# Altium schematic symbol library thuvien_altium.SchLib: 53 symbols
Pins are listed as number, name and electrical type; pins without a type are passive.

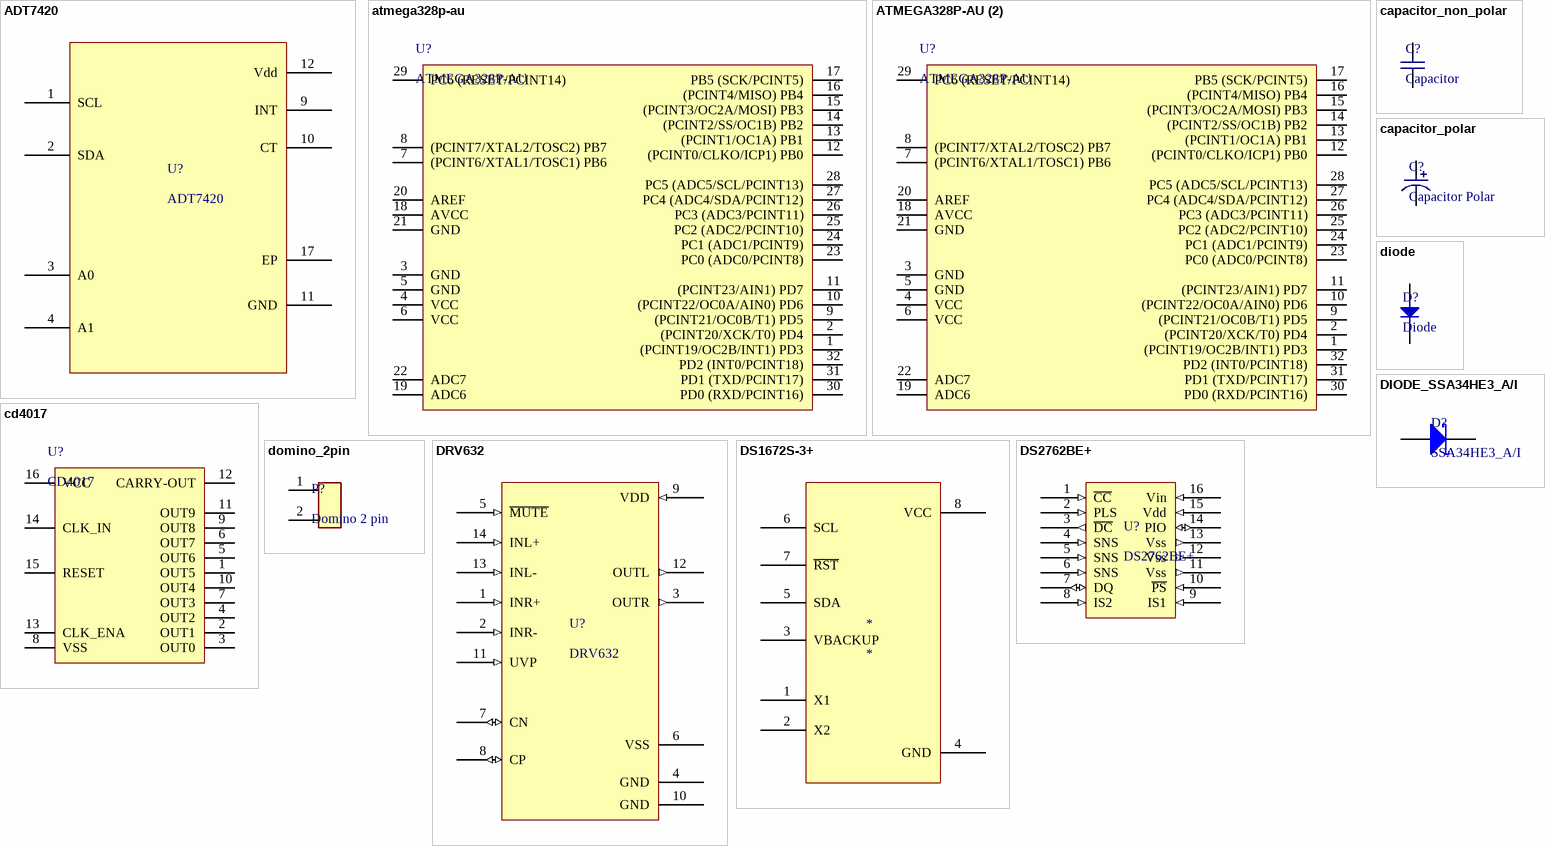
[diagram p0: symbols ADT7420 to DS2762BE+]

## ADT7420
designator U?
I2C Temperature sensor; Manufacturer: Analog Devices; Voltage: 2,7 - 5,5V; ComponentLink1Description: New link; ComponentLink1URL: https://www.analog.com/media/en/technical-documentation/data-sheets/adt7420.pdf; Temperature: -40 - 150°C
footprint ADT7420 (I2C Temperature sensor)
pins: 1 SCL, 2 SDA, 3 A0, 4 A1, 9 INT, 10 CT, 11 GND, 12 Vdd, 17 EP

## atmega328p-au
designator U?, comment ATMEGA328P-AU
AVR AVR® ATmega Microcontroller IC 8-Bit 20MHz 32KB (16K x 16) FLASH 32-TQFP (7x7)
footprint TQFP-32 (32-TQFP (7x7), Pitch 0.8mm)
pins: 1 (PCINT19/OC2B/INT1) PD3 (power), 2 (PCINT20/XCK/T0) PD4 (power), 3 GND (power), 4 VCC (power), 5 GND (power), 6 VCC (power), 7 (PCINT6/XTAL1/TOSC1) PB6 (power), 8 (PCINT7/XTAL2/TOSC2) PB7 (power), 9 (PCINT21/OC0B/T1) PD5 (power), 10 (PCINT22/OC0A/AIN0) PD6 (power), 11 (PCINT23/AIN1) PD7 (power), 12 (PCINT0/CLKO/ICP1) PB0 (power), 13 (PCINT1/OC1A) PB1 (power), 14 (PCINT2/SS/OC1B) PB2 (power), 15 (PCINT3/OC2A/MOSI) PB3 (power), 16 (PCINT4/MISO) PB4 (power), 17 PB5 (SCK/PCINT5) (power), 18 AVCC (power), 19 ADC6 (power), 20 AREF (power), 21 GND (power), 22 ADC7 (power), 23 PC0 (ADC0/PCINT8) (power), 24 PC1 (ADC1/PCINT9) (power), 25 PC2 (ADC2/PCINT10) (power), 26 PC3 (ADC3/PCINT11) (power), 27 PC4 (ADC4/SDA/PCINT12) (power), 28 PC5 (ADC5/SCL/PCINT13) (power), 29 PC6 (RESET/PCINT14) (power), 30 PD0 (RXD/PCINT16) (power), 31 PD1 (TXD/PCINT17) (power), 32 PD2 (INT0/PCINT18) (power)

## ATMEGA328P-AU (2)
designator U?, comment ATMEGA328P-AU
8-bit Microcontrollers - MCU 32KB In-system Flash 20MHz 1.8V-5.5V; Manufacturer: Microchip Technology / Atmel; Data RAM Size: 2 kB; Data RAM Type: SRAM; Data ROM Size: 1 kB; Data ROM Type: EEPROM; Interface Type: I2C, SPI, USART; Number of I/Os: 23 I/O; ADC Resolution: 10 bit; Core: AVR; Data Bus Width: 8 bit; Number of ADC Channels: 8 Channel; Number of Timers/Counters: 3 Timer; Operating Supply Voltage: 1.8 V to 5.5 V; Processor Series: megaAVR; Supply Voltage - Max: 5.5 V; Supply Voltage - Min: 1.8 V; Supplier 1: Mouser; Manufacturer Part Number: ATMEGA328P-AU; RoHS: RoHS Compliant; Category: 8-bit Microcontrollers - MCU; Stock 1: 36614; Pricing 1: 1=2.01, 25=1.84, 100=1.67 (USD); Height: 1 mm; Length: 7 mm; Package / Case: TQFP-32; Packaging: Tray; Product: MCU; Program Memory Type: Flash; Series: ATmega328P; Width: 7 mm; Brand: Microchip Technology / Atmel; Mounting Style: SMD/SMT; Program Memory Size: 32 kB; Maximum Clock Frequency: 20 MHz; Maximum Operating Temperature: + 85 C; Minimum Operating Temperature: - 40 C; Moisture Sensitive: Yes; Product Type: 8-bit Microcontrollers - MCU; Standard Pack Qty: 250; Subcategory: Microcontrollers - MCU; Tradename: AVR; RoHS - Mouser: Y; Minimum Order Quantity: 1; Reeling: False; ComponentLink1URL: https://www.mouser.com/datasheet/2/268/Atmel-8271-8-bit-AVR-Microcontroller-ATmega48A-48P-1315288.pdf; ComponentLink1Description: https://www.mouser.com/datasheet/2/268/Atmel-8271-8-bit-AVR-Microcontroller-ATmega48A-48P-1315288.pdf; Supplier Part Number 1: 556-ATMEGA328P-AU
footprint TQFP-32 (32-TQFP (7x7), Pitch 0.8mm)
pins: 1 (PCINT19/OC2B/INT1) PD3 (power), 2 (PCINT20/XCK/T0) PD4 (power), 3 GND (power), 4 VCC (power), 5 GND (power), 6 VCC (power), 7 (PCINT6/XTAL1/TOSC1) PB6 (power), 8 (PCINT7/XTAL2/TOSC2) PB7 (power), 9 (PCINT21/OC0B/T1) PD5 (power), 10 (PCINT22/OC0A/AIN0) PD6 (power), 11 (PCINT23/AIN1) PD7 (power), 12 (PCINT0/CLKO/ICP1) PB0 (power), 13 (PCINT1/OC1A) PB1 (power), 14 (PCINT2/SS/OC1B) PB2 (power), 15 (PCINT3/OC2A/MOSI) PB3 (power), 16 (PCINT4/MISO) PB4 (power), 17 PB5 (SCK/PCINT5) (power), 18 AVCC (power), 19 ADC6 (power), 20 AREF (power), 21 GND (power), 22 ADC7 (power), 23 PC0 (ADC0/PCINT8) (power), 24 PC1 (ADC1/PCINT9) (power), 25 PC2 (ADC2/PCINT10) (power), 26 PC3 (ADC3/PCINT11) (power), 27 PC4 (ADC4/SDA/PCINT12) (power), 28 PC5 (ADC5/SCL/PCINT13) (power), 29 PC6 (RESET/PCINT14) (power), 30 PD0 (RXD/PCINT16) (power), 31 PD1 (TXD/PCINT17) (power), 32 PD2 (INT0/PCINT18) (power)

## capacitor_non_polar
designator C?, comment Capacitor
capacitor non polar
footprint CAPC0805 (Chip Capacitor, Body 2.0x1.3mm, IPC High Density)
footprint CAP0603
pins: 1 (power), 2 (power)

## capacitor_polar
designator C?, comment Capacitor Polar
footprint capacitor_polar_6.3x11mm
footprint CAP_ALUMINUM_SMD_SIZE_G (SMD Aluminum Capacitor; Size G, Dia 10mm, Body 10.3 x 10.3 mm (LxW typ))
footprint Model Name (Footprint not found)
pins: 1 (power), 2 (power)

## cd4017
designator U?, comment CD4017
footprint DIP-16
pins: 1 OUT5 (power), 2 OUT1 (power), 3 OUT0 (power), 4 OUT2 (power), 5 OUT6 (power), 6 OUT7 (power), 7 OUT3 (power), 8 VSS (power), 9 OUT8 (power), 10 OUT4 (power), 11 OUT9 (power), 12 CARRY-OUT (power), 13 CLK_ENA (power), 14 CLK_IN (power), 15 RESET (power), 16 VCC (power)

## diode
designator D?, comment Diode
footprint DIODE_SOD80
footprint DO-214AC
pins: 1 A (power), 2 K (power)

## DIODE_SSA34HE3_A/I
designator D?, comment SSA34HE3_A/I
DIODE SCHOTTKY 40V 3A DO214AC; Manufacturer 1: Vishay Semiconductor Diodes Division; Category 1: Discrete Semiconductor Products; Voltage - Forward (Vf) (Max) @ If: 490mV @ 3A; Speed: Fast Recovery =< 500ns, > 200mA (Io); Current - Reverse Leakage @ Vr: 200µA @ 40V; Supplier 1: Digi-Key; Supplier Part Number 1: SSA34HE3_A/I-ND; Manufacturer Part Number 1: SSA34HE3_A/I; RoHS 1: RoHS Compliant; Description 1: DIODE SCHOTTKY 40V 3A DO214AC; Stock 1: 0; Pricing 1: 7500=0.13508 (USD); Packaging: Tape & Reel (TR); Part Status: Active; Diode Type: Schottky; Voltage - DC Reverse (Vr) (Max): 40V; Current - Average Rectified (Io): 3A; Capacitance @ Vr, F: -; Mounting Type: Surface Mount; Package / Case: DO-214AC, SMA; Supplier Device Package: DO-214AC (SMA); Operating Temperature - Junction: -65°C ~ 150°C; ComponentLink1URL: http://www.vishay.com/docs/88883/ssa33l.pdf; ComponentLink1Description: http://www.vishay.com/docs/88883/ssa33l.pdf
footprint DO-214AC
pins: 1 A, 2 K

## domino_2pin
designator P?, comment Domino 2 pin
footprint Domino_2pin_5.08mm
pins: 1 (power), 2 (power)

## DRV632
designator U?
2-VRMS Audio Line Driver With Adjustable Gain; ComponentLink1Description: New link; ComponentLink1URL: https://www.ti.com/lit/ds/symlink/drv632.pdf?ts=1742996996213&ref_url=https%253A%252F%252Fwww.ti.com%252Faudio-ic%252Famplifiers%252Fline-drivers%252Fproducts.html
footprint DRV632 (2-VRMS Audio Line Driver With Adjustable Gain)
pins: 1 INR+ (in), 2 INR- (in), 3 OUTR (out), 4 GND, 5 ~{MUTE} (in), 6 VSS, 7 CN (io), 8 CP (io), 9 VDD (in), 10 GND, 11 UVP (in), 12 OUTL (out), 13 INL- (in), 14 INL+ (in)

## DS1672S-3+
designator *
pins: 1 X1, 2 X2, 3 VBACKUP, 4 GND, 5 SDA, 6 SCL, 7 ~{RST}, 8 VCC

## DS2762BE+
designator U?
High-Precision Li+ Battery Monitor With Alerts
footprint DS2762BE+
pins: 1 ~{CC} (in), 2 PLS (in), 3 ~{DC} (out), 4 SNS (in), 5 SNS (in), 6 SNS (in), 7 DQ (io), 8 IS2 (in), 9 IS1 (in), 10 ~{PS} (in), 11 Vss (out), 12 Vss (out), 13 Vss (out), 14 PIO (io), 15 Vdd (in), 16 Vin (in)

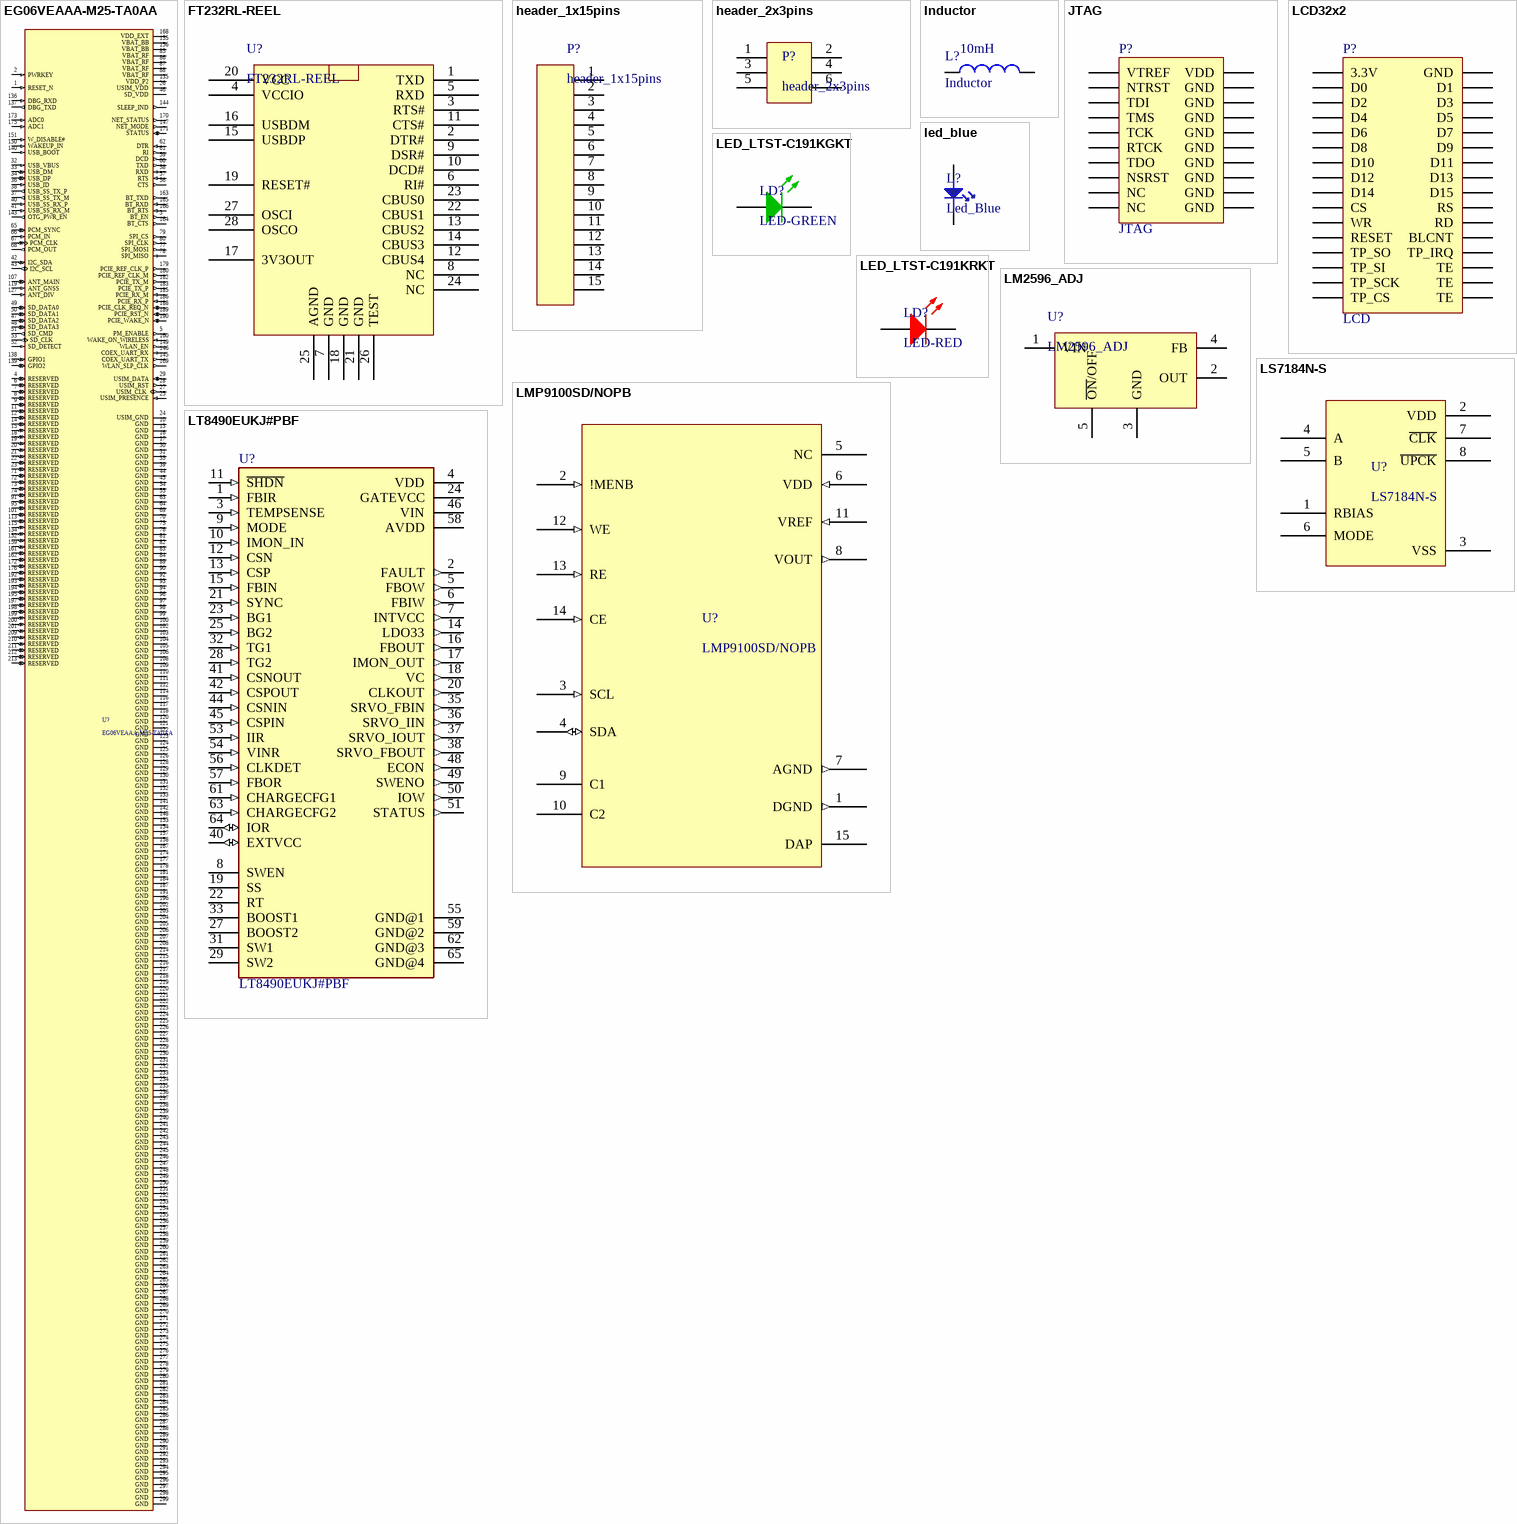
[diagram p1: symbols EG06VEAAA-M25-TA0AA to LT8490EUKJ#PBF]

## EG06VEAAA-M25-TA0AA
designator U?
EG060VEAAA-M25-TA0AA | Quectel; ComponentLink1Description: New link; ComponentLink1URL: https://www.snapeda.com/parts/EG060VEAAA-M25-TA0AA/Quectel/datasheet/
footprint EG060VEAAA-M25-TA0AA
pins: 1 RESET_N (in), 2 PWRKEY (in), 3 BT_EN (out), 4 RESERVED (io), 5 PM_ENABLE (out), 6 RESERVED (io), 7 RESERVED (io), 8 RESERVED (io), 9 RESERVED (io), 10 GND (power), 11 RESERVED (io), 12 RESERVED (io), 13 GND (power), 14 RESERVED (io), 15 RESERVED (io), 16 GND (power), 17 GND (power), 18 RESERVED (io), 19 RESERVED (io), 20 RESERVED (io), 21 RESERVED (io), 22 RESERVED (io), 23 RESERVED (io), 24 USIM_GND (power), 25 USIM_PRESENCE (in), 26 USIM_VDD (power), 27 USIM_CLK (out), 28 USIM_RST (out), 29 USIM_DATA (io), 30 GND (power), 31 GND (power), 32 USB_VBUS (in), 33 USB_DM (io), 34 USB_DP (io), 35 GND (power), 36 USB_ID (in), 37 USB_SS_TX_M (out), 38 USB_SS_TX_P (out), 39 GND (power), 40 USB_SS_RX_P (in), 41 USB_SS_RX_M (in), 42 I2C_SDA (io), 43 I2C_SCL (out), 44 GND (power), 45 GND (power), 46 SD_VDD (power), 47 SD_DATA2 (io), 48 SD_DATA3 (io), 49 SD_DATA0 (io), 50 SD_DATA1 (io), 51 SD_CMD (out), 52 SD_DETECT (in), 53 SD_CLK (out), 54 GND (power), 55 GND (power), 56 CTS (out), 57 RTS (in), 58 RXD (in), 59 DCD (out), 60 TXD (out), 61 RI (out), 62 DTR (in), 63 GND (power), 64 GND (power), 65 PCM_SYNC (io), 66 PCM_IN (in), 67 PCM_CLK (io), 68 PCM_OUT (out), 69 GND (power), 70 GND (power), 71 RESERVED (io), 72 RESERVED (io), 73 RESERVED (io), 74 RESERVED (io), 75 GND (power), 76 GND (power), 77 SPI_MOSI (out), 78 SPI_MISO (in), 79 SPI_CS (out), 80 SPI_CLK (out), 81 GND (power), 82 GND (power), 83 GND (power), 84 GND (power), 85 VBAT_RF (power), 86 VBAT_RF (power), 87 VBAT_RF (power), 88 VBAT_RF (power), 89 GND (power), 90 GND (power), 91 RESERVED (io), 92 GND (power), 93 GND (power), 94 GND (power), 95 RESERVED (io), 96 GND (power), 97 GND (power), 98 GND (power), 99 GND (power), 100 GND (power), 101 RESERVED (io), 102 GND (power), 103 GND (power), 104 GND (power), 105 GND (power), 106 GND (power), 107 ANT_MAIN (io), 108 GND (power), 109 GND (power), 110 GND (power), 111 GND (power), 112 GND (power), 113 RESERVED (io), 114 GND (power), 115 RESERVED (io), 116 GND (power), 117 GND (power), 118 GND (power), 119 ANT_GNSS (in), 120 GND (power), 121 GND (power), 122 GND (power), 123 GND (power), 124 GND (power), 125 GND (power), 126 GND (power), 127 ANT_DIV (in), 128 GND (power), 129 GND (power), 130 GND (power), 131 GND (power), 132 GND (power), 133 GND (power), 134 RESERVED (io), 135 VDD_P2 (power), 136 DBG_RXD (in), 137 DBG_TXD (out), 138 GPIO1 (io), 139 GPIO2 (io), 140 USB_BOOT (in), 141 GND (power), 142 GND (power), 143 OTG_PWR_EN (out), 144 SLEEP_IND (out), 145 COEX_UART_TX (out), 146 COEX_UART_RX (in), 147 NET_MODE (out), 148 GND (power), 149 WLAN_EN (out), 150 WAKEUP_IN (in), 151 W_DISABLE# (in), 152 RESERVED (io), 153 GND (power), 154 GND (power), 155 VBAT_BB (power), 156 VBAT_BB (power), 157 GND (power), 158 GND (power), 159 RESERVED (io), 160 WAKE_ON_WIRELESS (in), 161 RESERVED (io), 162 RESERVED (io), 163 BT_TXD (out), 164 BT_CTS (out), 165 BT_RXD (in), 166 BT_RTS (in), 167 GND (power), 168 VDD_EXT (power), 169 WLAN_SLP_CLK (out), 170 NET_STATUS (out), 171 STATUS (io), 172 RESERVED (io), 173 ADC0 (in), 174 GND (power), 175 ADC1 (in), 176 RESERVED (io), 177 GND (power), 178 GND (power), 179 PCIE_REF_CLK_P (out), 180 PCIE_REF_CLK_M (out), 181 GND (power), 182 PCIE_TX_M (out), 183 PCIE_TX_P (out), 184 GND (power), 185 PCIE_RX_M (in), 186 PCIE_RX_P (in), 187 GND (power), 188 PCIE_CLK_REQ_N (io), 189 PCIE_RST_N (io), 190 PCIE_WAKE_N (io), 191 GND (power), 192 RESERVED (io), 193 RESERVED (io), 194 RESERVED (io), 195 RESERVED (io), 196 GND (power), 197 RESERVED (io), 198 RESERVED (io), 199 RESERVED (io), 200 RESERVED (io), 201 RESERVED (io), 202 GND (power), 203 GND (power), 204 GND (power), 205 GND (power), 206 GND (power), 207 GND (power), 208 GND (power), 209 RESERVED (io), 210 RESERVED (io), 211 RESERVED (io), 212 RESERVED (io), 213 RESERVED (io), 214 GND (power), 215 GND (power), 216 GND (power), 217 GND (power), 218 GND (power), 219 GND (power), 220 GND (power), 221 GND (power), 222 GND (power), 223 GND (power), 224 GND (power), 225 GND (power), 226 GND (power), 227 GND (power), 228 GND (power), 229 GND (power), 230 GND (power), 231 GND (power), 232 GND (power), 233 GND (power), 234 GND (power), 235 GND (power), 236 GND (power), 237 GND (power), 238 GND (power), 239 GND (power), 240 GND (power), 241 GND (power), 242 GND (power), 243 GND (power), 244 GND (power), 245 GND (power), 246 GND (power), 247 GND (power), 248 GND (power), 249 GND (power), 250 GND (power), 251 GND (power), 252 GND (power), 253 GND (power), 254 GND (power), 255 GND (power), 256 GND (power), 257 GND (power), 258 GND (power), 259 GND (power), 260 GND (power), 261 GND (power), 262 GND (power), 263 GND (power), 264 GND (power), 265 GND (power), 266 GND (power), 267 GND (power), 268 GND (power), 269 GND (power), 270 GND (power), 271 GND (power), 272 GND (power), 273 GND (power), 274 GND (power), 275 GND (power), 276 GND (power), 277 GND (power), 278 GND (power), 279 GND (power), 280 GND (power), 281 GND (power), 282 GND (power), 283 GND (power), 284 GND (power), 285 GND (power), 286 GND (power), 287 GND (power), 288 GND (power), 289 GND (power), 290 GND (power), 291 GND (power), 292 GND (power), 293 GND (power), 294 GND (power), 295 GND (power), 296 GND (power), 297 GND (power), 298 GND (power), 299 GND (power)

## FT232RL-REEL
designator U?
USB Interface IC USB to Serial UART Enhanced IC SSOP-28; Manufacturer: FTDI; Data Rate: 12 Mb/s; Speed: Full Speed; Operating Supply Current: 25 mA; Operating Supply Voltage: 1.8 V to 5.25 V; Supplier 1: Mouser; Manufacturer Part Number: FT232RL-REEL; RoHS: RoHS Compliant; Category: USB Interface IC; Stock 1: 158762; Pricing 1: 1=4.50, 10=4.05, 50=3.85, 100=3.65, 250=3.25, 500=2.85, 1000=2.65, 2000=2.65 (USD); Package / Case: SSOP-28; Packaging: Cut Tape; Product: USB Bridge Controllers; Series: FT232; Type: Bridge, USB to UART; Brand: FTDI; Interface Type: UART; Mounting Style: SMD/SMT; Maximum Operating Temperature: + 85 C; Minimum Operating Temperature: - 40 C; Moisture Sensitive: Yes; Standard: USB 2.0; Standard Pack Qty: 2000; Tradename: R-CHIP; RoHS - Mouser: Y; Minimum Order Quantity: 1; Reeling: True; ComponentLink1URL: http://www.mouser.com/ds/2/163/DS_FT232R-11534.pdf; ComponentLink1Description: http://www.mouser.com/ds/2/163/DS_FT232R-11534.pdf; Supplier Part Number 1: 895-FT232RL
footprint SSOP28 (TSOP, 28-Leads, Body 9.7x4.4mm, Pitch 0.65mm, IPC Low Density)
footprint SSOP28 (TSOP, 28-Leads, Body 9.7x4.4mm, Pitch 0.65mm, IPC Low Density)
pins: 1 TXD, 2 DTR#, 3 RTS#, 4 VCCIO, 5 RXD, 6 RI#, 7 GND, 8 NC, 9 DSR#, 10 DCD#, 11 CTS#, 12 CBUS4, 13 CBUS2, 14 CBUS3, 15 USBDP, 16 USBDM, 17 3V3OUT, 18 GND, 19 RESET#, 20 VCC, 21 GND, 22 CBUS1, 23 CBUS0, 24 NC, 25 AGND, 26 TEST, 27 OSCI, 28 OSCO

## header_1x15pins
designator P?
footprint HDR_M_1X15_2.54 (Header Male 1x15pins, Pitch 2.54mm)
pins: 1 (power), 2 (power), 3 (power), 4 (power), 5 (power), 6 (power), 7 (power), 8 (power), 9 (power), 10 (power), 11 (power), 12 (power), 13 (power), 14 (power), 15 (power)

## header_2x3pins
designator P?
footprint HDR_M_2X3_2.54 (Header Male 2x3pins, Pitch 2.54mm)
pins: 1 (power), 2 (power), 3 (power), 4 (power), 5 (power), 6 (power)

## Inductor
designator L?  value 10mH
Code_IEC: 1005; Published: 8-Jun-2000; LatestRevisionDate: 29-May-2009; LatestRevisionNote: IPC-7351 Footprint Added.; PackageReference: 0402-A; Publisher: Altium Limited; PackageDescription: Chip Inductor; Code_JEITA: 0402
footprint INDC_DR127-1 (Chip Inductor, Body 12.5x12.5x8mm, IPC High Density)
pins: 1, 2

## JTAG
designator P?
footprint JTAG
pins: 1 VTREF, 2 VDD, 3 NTRST, 4 GND, 5 TDI, 6 GND, 7 TMS, 8 GND, 9 TCK, 10 GND, 11 RTCK, 12 GND, 13 TDO, 14 GND, 15 NSRST, 16 GND, 17 NC, 18 GND, 19 NC, 20 GND

## LCD32x2
designator P?, comment LCD
footprint LCD32x2 (LCD)
pins: 1 3.3V, 2 GND, 3 D0, 4 D1, 5 D2, 6 D3, 7 D4, 8 D5, 9 D6, 10 D7, 11 D8, 12 D9, 13 D10, 14 D11, 15 D12, 16 D13, 17 D14, 18 D15, 19 CS, 20 RS, 21 WR, 22 RD, 23 RESET, 24 BLCNT, 25 TP_SO, 26 TP_IRQ, 27 TP_SI, 28 TE, 29 TP_SCK, 30 TE, 31 TP_CS, 32 TE

## led_blue
designator L?, comment Led_Blue
footprint led_blue_t/h_5mm
pins: 1 A (power), 2 K (power)

## LED_LTST-C191KGKT
designator LD?, comment LED-GREEN
LED GREEN CLEAR 0603 SMD; Manufacturer 1: Lite-On Inc.; Manufacturer Part Number 1: LTST-C191KGKT; Category 1: Optoelectronics; Lens Color: Colorless; Millicandela Rating: 35mcd; Lens Style/Size: Rectangle with Flat Top, 1.10mm x 0.80mm; Voltage - Forward (Vf) (Typ): 2V; Current - Test: 20mA; Viewing Angle: 130°; Wavelength - Dominant: 571nm; Wavelength - Peak: 574nm; Supplier 1: Digi-Key; Supplier Part Number 1: 160-1446-1-ND; RoHS 1: RoHS Compliant; Description 1: LED GREEN CLEAR 0603 SMD; Stock 1: 1325167; Pricing 1: 1=0.29, 10=0.211, 25=0.1556, 100=0.1111, 250=0.07556, 500=0.06666, 1000=0.05222, 2500=0.05111 (USD); Packaging: Cut Tape (CT); Part Status: Active; Color: Green; Lens Transparency: Clear; Mounting Type: Surface Mount; Features: -; Size / Dimension: 1.60mm L x 0.80mm W; Height (Max): 0.55mm; ComponentLink1URL: http://optoelectronics.liteon.com/upload/download/DS22-2000-228/S_110_LTST-C191KGKT.pdf; ComponentLink1Description: http://optoelectronics.liteon.com/upload/download/DS22-2000-228/S_110_LTST-C191KGKT.pdf; Package / Case: 0603 (1608 Metric)
footprint LED_SMD0603_GREEN
pins: 1 A, 2 K

## LED_LTST-C191KRKT
designator LD?, comment LED-RED
LED RED CLEAR 0603 SMD; Manufacturer: Lite-On Inc.; Manufacturer Part Number: LTST-C191KRKT; Lens Color: Colorless; Millicandela Rating: 54mcd; Lens Style/Size: Rectangle with Flat Top, 1.10mm x 0.80mm; Voltage - Forward (Vf) (Typ): 2V; Current - Test: 20mA; Viewing Angle: 130°; Wavelength - Dominant: 631nm; Wavelength - Peak: 639nm; Supplier 1: Digi-Key; RoHS: RoHS Compliant; Category: Optoelectronics; Stock 1: 711347; Pricing 1: 1=0.29, 10=0.211, 25=0.1556, 100=0.1111, 250=0.07556, 500=0.06666, 1000=0.05222, 2500=0.05111 (USD); Packaging: Digi-Reel®; Part Status: Active; Color: Red; Lens Transparency: Clear; Mounting Type: Surface Mount; Features: -; Size / Dimension: 1.60mm L x 0.80mm W; Height (Max): 0.65mm; ComponentLink1URL: http://optoelectronics.liteon.com/upload/download/DS22-2000-223/LTST-C191KRKT.PDF; ComponentLink1Description: http://optoelectronics.liteon.com/upload/download/DS22-2000-223/LTST-C191KRKT.PDF; Supplier Part Number 1: 160-1447-6-ND; Package / Case: 0603 (1608 Metric)
footprint LED_SMD0603_RED
pins: 1 A, 2 K

## LM2596_ADJ
designator U?
footprint TO263-5
pins: 1 VIN (power), 2 OUT (power), 3 GND (power), 4 FB (power), 5 ~{ON}/OFF (power)

## LMP9100SD/NOPB
designator U?
Configurable AFE potentiostat for low-power electrochemical cell monitoring
footprint LMP91000SD/NOPB
pins: 1 DGND (out), 2 !MENB (in), 3 SCL (in), 4 SDA (io), 5 NC, 6 VDD (in), 7 AGND (out), 8 VOUT (out), 9 C1, 10 C2, 11 VREF (in), 12 WE (in), 13 RE (in), 14 CE (in), 15 DAP

## LS7184N-S
designator U?
Quadrature Clock Converter
footprint LS7184N-S
pins: 1 RBIAS, 2 VDD, 3 VSS, 4 A, 5 B, 6 MODE, 7 ~{CLK}, 8 ~{UPCK}

## LT8490EUKJ#PBF
designator U?
Battery Charger Lead-Acid/Li-Ion 1.3V to 80V 64-Pin QFN EP Tube; MF: Analog Devices; Value: *; Availability: Unavailable; Package: QFN -58 Analog Devices; Price: None; SnapEDA_Link: https://www.snapeda.com/parts/LT8490EUKJ%23PBF/Analog%20Devices/view-part/4331724/?ref=snap; MP: LT8490EUKJ#PBF
footprint QFN50P700X1100X80-65N
pins: 1 FBIR (in), 2 FAULT (out), 3 TEMPSENSE (in), 4 VDD (power), 5 FBOW (out), 6 FBIW (out), 7 INTVCC (out), 8 SWEN, 9 MODE (in), 10 IMON_IN (in), 11 ~{SHDN} (in), 12 CSN (in), 13 CSP (in), 14 LDO33 (out), 15 FBIN (in), 16 FBOUT (out), 17 IMON_OUT (out), 18 VC (out), 19 SS, 20 CLKOUT (out), 21 SYNC (in), 22 RT, 23 BG1 (in), 24 GATEVCC (power), 25 BG2 (in), 27 BOOST2, 28 TG2 (in), 29 SW2, 31 SW1, 32 TG1 (in), 33 BOOST1, 35 SRVO_FBIN (out), 36 SRVO_IIN (out), 37 SRVO_IOUT (out), 38 SRVO_FBOUT (out), 40 EXTVCC (io), 41 CSNOUT (in), 42 CSPOUT (in), 44 CSNIN (in), 45 CSPIN (in), 46 VIN (power), 48 ECON (out), 49 SWENO (out), 50 IOW (out), 51 STATUS (out), 53 IIR (in), 54 VINR (in), 55 GND@1 (power), 56 CLKDET (in), 57 FBOR (in), 58 AVDD (power), 59 GND@2 (power), 61 CHARGECFG1 (in), 62 GND@3 (power), 63 CHARGECFG2 (in), 64 IOR (io), 65 GND@4 (power)

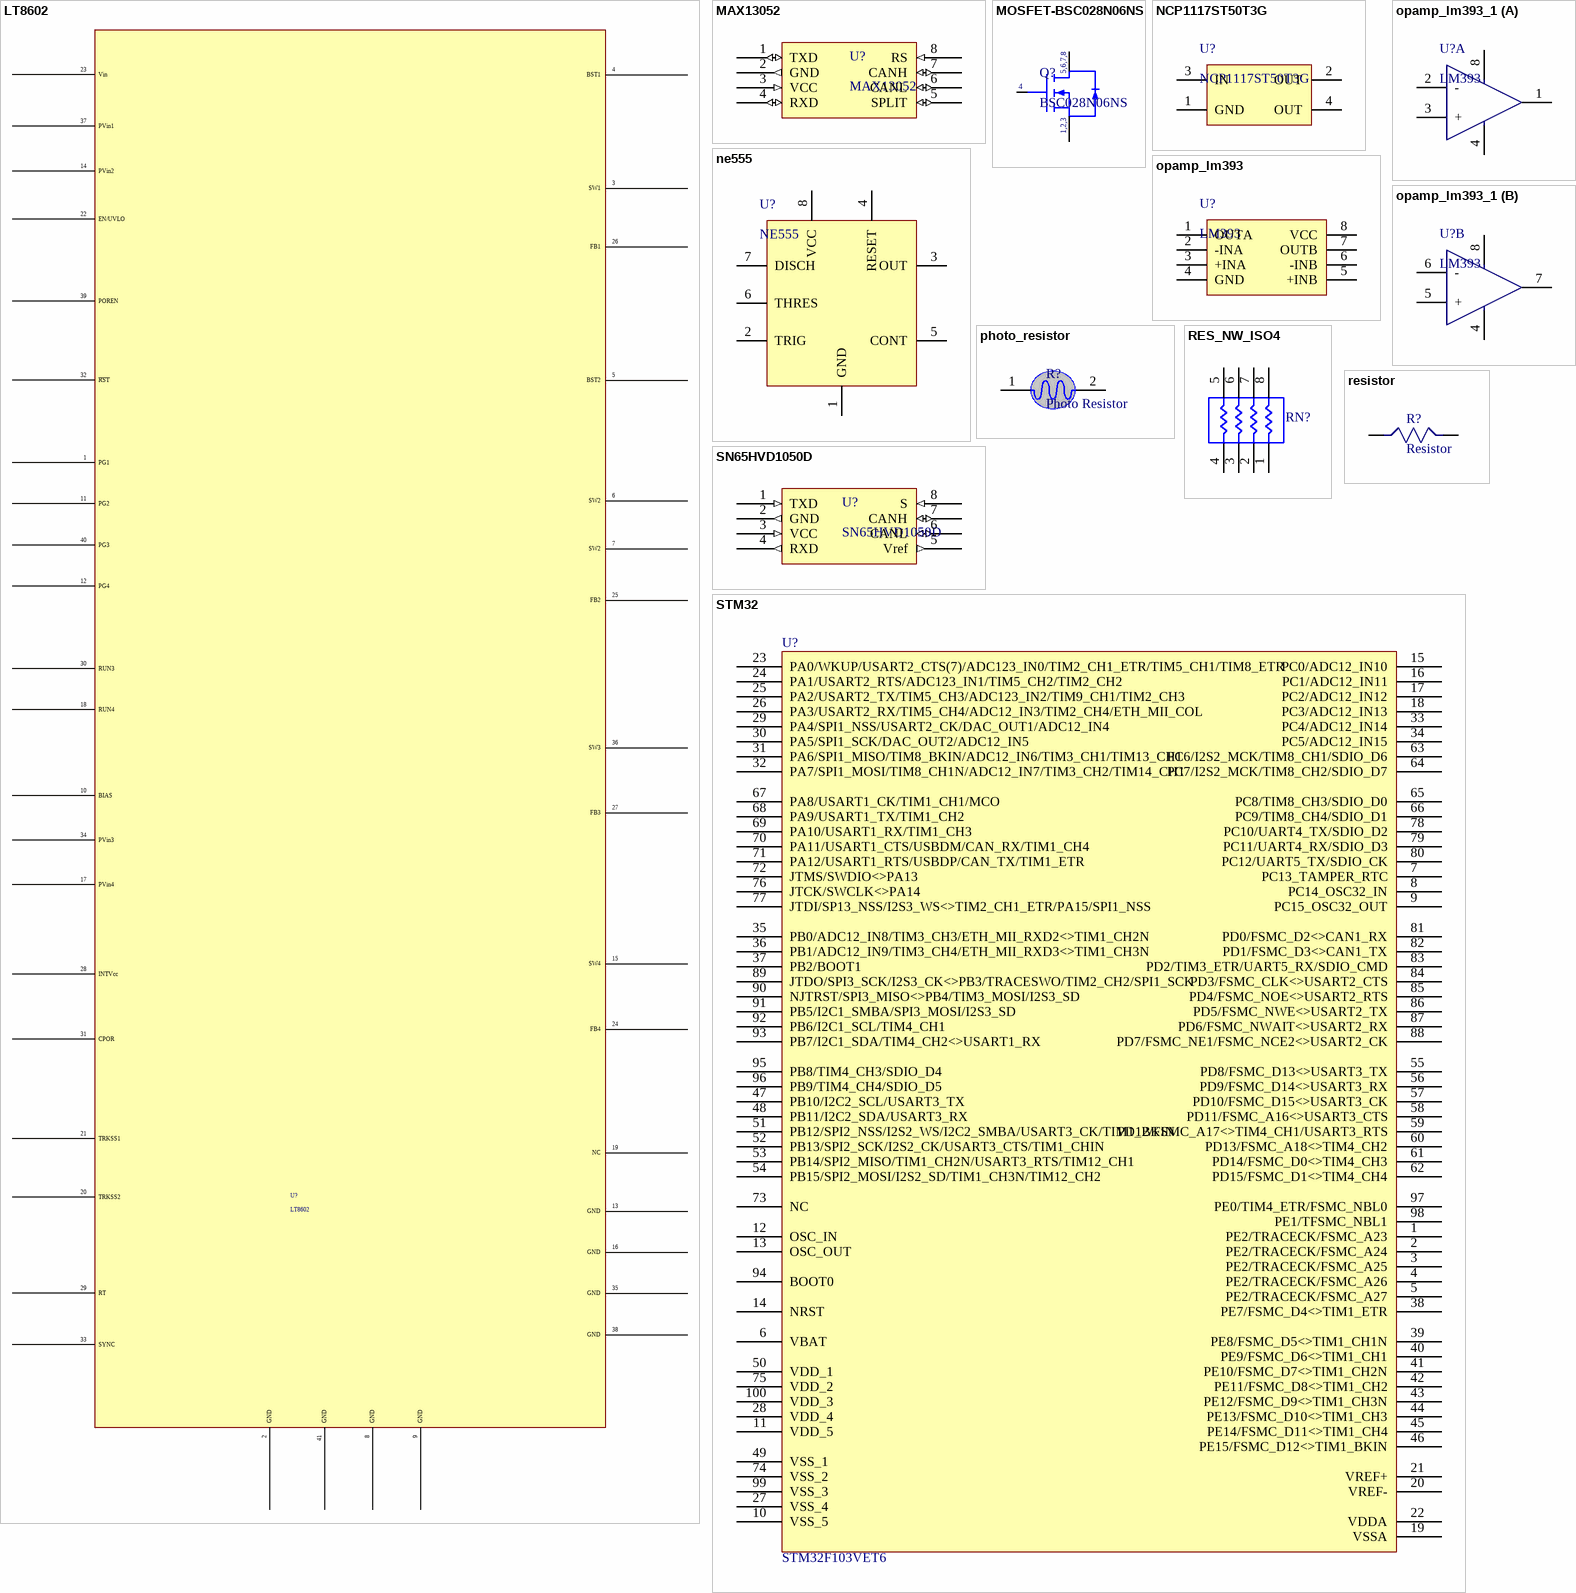
[diagram p2: symbols LT8602 to STM32]

## LT8602
designator U?
42V quad monolithic synchronous step-down regulator with 30μA quiescent current; Input: 6-42V; Output1: 5V - 1,5A; Output2: 3,3V - 2,5A; Output3: 1,8V -  1,7A; Output4: 1,2V - 1,8A; ComponentLink1Description: New link; ComponentLink1URL: https://www.analog.com/media/en/technical-documentation/data-sheets/8602fb.pdf
footprint LT8602
pins: 1 PG1, 2 GND, 3 SW1, 4 BST1, 5 BST2, 6 SW2, 7 SW2, 8 GND, 9 GND, 10 BIAS, 11 PG2, 12 PG4, 13 GND, 14 PVin2, 15 SW4, 16 GND, 17 PVin4, 18 RUN4, 19 NC, 20 TRKSS2, 21 TRKSS1, 22 EN/UVLO, 23 Vin, 24 FB4, 25 FB2, 26 FB1, 27 FB3, 28 INTVcc, 29 RT, 30 RUN3, 31 CPOR, 32 ~{RST}, 33 SYNC, 34 PVin3, 35 GND, 36 SW3, 37 PVin1, 38 GND, 39 POREN, 40 PG3, 41 GND

## MAX13052
designator U?
Industry-Standard High-Speed CAN / Transceivers with ±80V Fault Protection; ComponentLink1Description: New link; ComponentLink1URL: https://www.snapeda.com/parts/MAX13052ESA+/Analog%20Devices/datasheet/
footprint MAX13052
pins: 1 TXD (io), 2 GND (out), 3 VCC (in), 4 RXD (io), 5 SPLIT (io), 6 CANL (io), 7 CANH (io), 8 RS (in)

## MOSFET-BSC028N06NS
designator Q?, comment BSC028N06NS
MOSFET OptiMOS, Power transistor 60V
footprint MOSFET (BSC028N06NS)
text: 5,6,7,8; 4; 1,2,3

## NCP1117ST50T3G
designator U?
IC REG LINEAR 5V 1A SOT223; Manufacturer: ON Semiconductor; Output Configuration: Positive; Output Type: Fixed; Voltage - Input (Max): 20V; Voltage Dropout (Max): 1.2V @ 800mA; PSRR: 61dB (120Hz); Protection Features: Over Current, Over Temperature; Supplier 1: Digi-Key; Manufacturer Part Number: NCP1117ST50T3G; RoHS: RoHS Compliant; Category: Integrated Circuits (ICs); Stock 1: 748; Pricing 1: 1=0.5, 10=0.43, 100=0.3211, 500=0.25226, 1000=0.19493 (USD); Packaging: Cut Tape (CT); Part Status: Active; Voltage - Output (Min/Fixed): 5V; Voltage - Output (Max): -; Current - Output: 1A; Control Features: -; Operating Temperature: 0°C ~ 125°C; Mounting Type: Surface Mount; Package / Case: TO-261-4, TO-261AA; Supplier Device Package: SOT-223; ComponentLink1URL: http://www.onsemi.com/pub/Collateral/NCP1117-D.PDF; ComponentLink1Description: http://www.onsemi.com/pub/Collateral/NCP1117-D.PDF; Supplier Part Number 1: NCP1117ST50T3GOSCT-ND
footprint SOT223-4M (SOT223, 4-Leads, Body 6.5x3.5mm, Pitch 2.3mm, Lead Span 7mm, IPC Low Density)
pins: 1 GND (power), 2 OUT, 3 IN (power), 4 OUT

## ne555
designator U?, comment NE555
footprint DIP-8
pins: 1 GND (power), 2 TRIG (power), 3 OUT (power), 4 RESET (power), 5 CONT (power), 6 THRES (power), 7 DISCH (power), 8 VCC (power)

## opamp_lm393
designator U?, comment LM393
OPAMP LM393
pins: 1 OUTA (power), 2 -INA (power), 3 +INA (power), 4 GND (power), 5 +INB (power), 6 -INB (power), 7 OUTB (power), 8 VCC (power)

## opamp_lm393_1
designator U?, comment LM393
OPAMP LM393
footprint DIP-8
footprint SOIC-8
part A pins: 1 A (power), 2 - (power), 3 + (power), 4 GND (power), 8 VCC (power)
part B pins: 4 GND (power), 5 + (power), 6 - (power), 7 B (power), 8 VCC (power)

## photo_resistor
designator R?, comment Photo Resistor
footprint PHOTO RESISTOR
pins: 1 (power), 2 (power)

## RES_NW_ISO4
designator RN?, comment 10K  (value not drawn)
Resistor Network 10KΩ +/-5% SMT 0603 Yageo; Part_Num: R0004; Manufacturer_1_PN: YC164-JR-0710KL; Value_2: 1/16W; Tolerance_%: 5%; Temp_Range: -55C to 155C; Part_Category: Resistor Network; Value_1: 10K; Manufacturer_1: Yageo
footprint RES_SMD (8¸öÒý½Å£¬4¸ö×èÈÝ)
pins: 1, 2, 3, 4, 5, 6, 7, 8

## resistor
designator R?, comment Resistor
footprint resistor_t/h_1/4w
footprint RESC0805 (Chip Resistor, Body 2.0x1.3mm, IPC High Density)
footprint RES0603
pins: 1 (power), 2 (power)

## SN65HVD1050D
designator U?
EMC Optimized CAN Bus Transceiver; ComponentLink1Description: New link; ComponentLink1URL: https://www.snapeda.com/parts/SN65HVD1050D/Texas%20Instruments/datasheet/
footprint SN65HVD1050D
pins: 1 TXD (in), 2 GND (out), 3 VCC (in), 4 RXD (out), 5 Vref (out), 6 CANL (io), 7 CANH (io), 8 S (in)

## STM32
designator U?, comment STM32F103VET6
footprint QFP100
footprint STM32 (STM32F103VET6)
pins: 1 PE2/TRACECK/FSMC_A23, 2 PE2/TRACECK/FSMC_A24, 3 PE2/TRACECK/FSMC_A25, 4 PE2/TRACECK/FSMC_A26, 5 PE2/TRACECK/FSMC_A27, 6 VBAT, 7 PC13_TAMPER_RTC, 8 PC14_OSC32_IN, 9 PC15_OSC32_OUT, 10 VSS_5, 11 VDD_5, 12 OSC_IN, 13 OSC_OUT, 14 NRST, 15 PC0/ADC12_IN10, 16 PC1/ADC12_IN11, 17 PC2/ADC12_IN12, 18 PC3/ADC12_IN13, 19 VSSA, 20 VREF-, 21 VREF+, 22 VDDA, 23 PA0/WKUP/USART2_CTS(7)/ADC123_IN0/TIM2_CH1_ETR/TIM5_CH1/TIM8_ETR, 24 PA1/USART2_RTS/ADC123_IN1/TIM5_CH2/TIM2_CH2, 25 PA2/USART2_TX/TIM5_CH3/ADC123_IN2/TIM9_CH1/TIM2_CH3, 26 PA3/USART2_RX/TIM5_CH4/ADC12_IN3/TIM2_CH4/ETH_MII_COL, 27 VSS_4, 28 VDD_4, 29 PA4/SPI1_NSS/USART2_CK/DAC_OUT1/ADC12_IN4, 30 PA5/SPI1_SCK/DAC_OUT2/ADC12_IN5, 31 PA6/SPI1_MISO/TIM8_BKIN/ADC12_IN6/TIM3_CH1/TIM13_CH1, 32 PA7/SPI1_MOSI/TIM8_CH1N/ADC12_IN7/TIM3_CH2/TIM14_CH1, 33 PC4/ADC12_IN14, 34 PC5/ADC12_IN15, 35 PB0/ADC12_IN8/TIM3_CH3/ETH_MII_RXD2<>TIM1_CH2N, 36 PB1/ADC12_IN9/TIM3_CH4/ETH_MII_RXD3<>TIM1_CH3N, 37 PB2/BOOT1, 38 PE7/FSMC_D4<>TIM1_ETR, 39 PE8/FSMC_D5<>TIM1_CH1N, 40 PE9/FSMC_D6<>TIM1_CH1, 41 PE10/FSMC_D7<>TIM1_CH2N, 42 PE11/FSMC_D8<>TIM1_CH2, 43 PE12/FSMC_D9<>TIM1_CH3N, 44 PE13/FSMC_D10<>TIM1_CH3, 45 PE14/FSMC_D11<>TIM1_CH4, 46 PE15/FSMC_D12<>TIM1_BKIN, 47 PB10/I2C2_SCL/USART3_TX, 48 PB11/I2C2_SDA/USART3_RX, 49 VSS_1, 50 VDD_1, 51 PB12/SPI2_NSS/I2S2_WS/I2C2_SMBA/USART3_CK/TIM1_BKIN, 52 PB13/SPI2_SCK/I2S2_CK/USART3_CTS/TIM1_CHIN, 53 PB14/SPI2_MISO/TIM1_CH2N/USART3_RTS/TIM12_CH1, 54 PB15/SPI2_MOSI/I2S2_SD/TIM1_CH3N/TIM12_CH2, 55 PD8/FSMC_D13<>USART3_TX, 56 PD9/FSMC_D14<>USART3_RX, 57 PD10/FSMC_D15<>USART3_CK, 58 PD11/FSMC_A16<>USART3_CTS, 59 PD12/FSMC_A17<>TIM4_CH1/USART3_RTS, 60 PD13/FSMC_A18<>TIM4_CH2, 61 PD14/FSMC_D0<>TIM4_CH3, 62 PD15/FSMC_D1<>TIM4_CH4, 63 PC6/I2S2_MCK/TIM8_CH1/SDIO_D6, 64 PC7/I2S2_MCK/TIM8_CH2/SDIO_D7, 65 PC8/TIM8_CH3/SDIO_D0, 66 PC9/TIM8_CH4/SDIO_D1, 67 PA8/USART1_CK/TIM1_CH1/MCO, 68 PA9/USART1_TX/TIM1_CH2, 69 PA10/USART1_RX/TIM1_CH3, 70 PA11/USART1_CTS/USBDM/CAN_RX/TIM1_CH4, 71 PA12/USART1_RTS/USBDP/CAN_TX/TIM1_ETR, 72 JTMS/SWDIO<>PA13, 73 NC, 74 VSS_2, 75 VDD_2, 76 JTCK/SWCLK<>PA14, 77 JTDI/SP13_NSS/I2S3_WS<>TIM2_CH1_ETR/PA15/SPI1_NSS, 78 PC10/UART4_TX/SDIO_D2, 79 PC11/UART4_RX/SDIO_D3, 80 PC12/UART5_TX/SDIO_CK, 81 PD0/FSMC_D2<>CAN1_RX, 82 PD1/FSMC_D3<>CAN1_TX, 83 PD2/TIM3_ETR/UART5_RX/SDIO_CMD, 84 PD3/FSMC_CLK<>USART2_CTS, 85 PD4/FSMC_NOE<>USART2_RTS, 86 PD5/FSMC_NWE<>USART2_TX, 87 PD6/FSMC_NWAIT<>USART2_RX, 88 PD7/FSMC_NE1/FSMC_NCE2<>USART2_CK, 89 JTDO/SPI3_SCK/I2S3_CK<>PB3/TRACESWO/TIM2_CH2/SPI1_SCK, 90 NJTRST/SPI3_MISO<>PB4/TIM3_MOSI/I2S3_SD, 91 PB5/I2C1_SMBA/SPI3_MOSI/I2S3_SD, 92 PB6/I2C1_SCL/TIM4_CH1, 93 PB7/I2C1_SDA/TIM4_CH2<>USART1_RX, 94 BOOT0, 95 PB8/TIM4_CH3/SDIO_D4, 96 PB9/TIM4_CH4/SDIO_D5, 97 PE0/TIM4_ETR/FSMC_NBL0, 98 PE1/TFSMC_NBL1, 99 VSS_3, 100 VDD_3

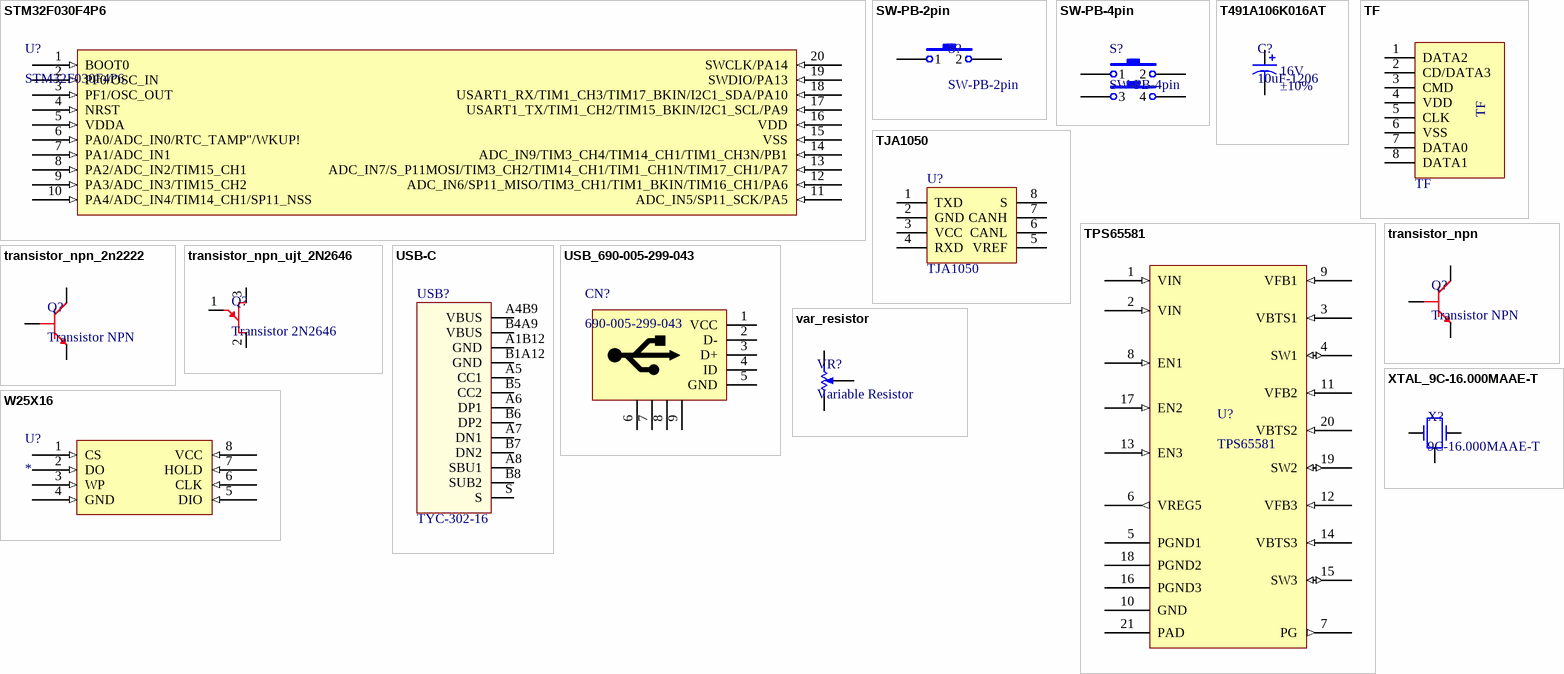
[diagram p3: symbols STM32F030F4P6 to XTAL_9C-16.000MAAE-T]

## STM32F030F4P6
designator U?
footprint STM32F030F4P6 (STM32)
pins: 1 BOOT0 (in) "BOOT", 2 PF0/OSC_IN (in), 3 PF1/OSC_OUT (in), 4 NRST (in), 5 VDDA (in), 6 PA0/ADC_IN0/RTC_TAMP"/WKUP! (in), 7 PA1/ADC_IN1 (in), 8 PA2/ADC_IN2/TIM15_CH1 (in), 9 PA3/ADC_IN3/TIM15_CH2 (in), 10 PA4/ADC_IN4/TIM14_CH1/SP11_NSS (in), 11 ADC_IN5/SP11_SCK/PA5 (in), 12 ADC_IN6/SP11_MISO/TIM3_CH1/TIM1_BKIN/TIM16_CH1/PA6 (in), 13 ADC_IN7/S_P11MOSI/TIM3_CH2/TIM14_CH1/TIM1_CH1N/TIM17_CH1/PA7 (in), 14 ADC_IN9/TIM3_CH4/TIM14_CH1/TIM1_CH3N/PB1 (in), 15 VSS (in), 16 VDD (in), 17 USART1_TX/TIM1_CH2/TIM15_BKIN/I2C1_SCL/PA9 (in), 18 USART1_RX/TIM1_CH3/TIM17_BKIN/I2C1_SDA/PA10 (in), 19 SWDIO/PA13 (in), 20 SWCLK/PA14 (in)

## SW-PB-2pin
designator S?
Switch; Published: 24-Mar-1999; LatestRevisionDate: 17-Jul-2002; LatestRevisionNote: Re-released for DXP Platform.; PackageReference: SPST-2; Publisher: Altium Limited
footprint SW_B3U-1000P
pins: 1, 2

## SW-PB-4pin
designator S?
Switch; Published: 24-Mar-1999; LatestRevisionDate: 17-Jul-2002; LatestRevisionNote: Re-released for DXP Platform.; PackageReference: SPST-2; Publisher: Altium Limited
footprint SW4 (SW button 4pin, 250 x250 mil)
pins: 1, 2, 3, 4

## T491A106K016AT
designator C?, comment 10uF-1206  Tolerance: ±10%  Voltage - Rated: 16V
CAP TANT 10UF 16V 10% 1206; Manufacturer 1: KEMET; Manufacturer Part Number 1: T491A106K016AT; Manufacturer Size Code: A; Category 1: Capacitors; Capacitance: 10µF; Type: Molded; ESR (Equivalent Series Resistance): 7 Ohm; Lifetime @ Temp.: 2000 Hrs @ 85°C; Supplier 1: Digi-Key; Supplier Part Number 1: 399-8269-1-ND; RoHS 1: RoHS Compliant; Description 1: CAP TANT 10UF 16V 10% 1206; Stock 1: 54083; Pricing 1: 1=0.45, 10=0.312, 100=0.1873, 500=0.14048, 1000=0.11862 (USD); Packaging: Cut Tape (CT); Part Status: Active; Operating Temperature: -55°C ~ 125°C; Mounting Type: Surface Mount; Package / Case: 1206 (3216 Metric); Size / Dimension: 0.126" L x 0.063" W (3.20mm x 1.60mm); Height - Seated (Max): 0.071" (1.80mm); Lead Spacing: -; Features: General Purpose; Failure Rate: -; ComponentLink1URL: http://www.kemet.com/Lists/ProductCatalog/Attachments/254/KEM_T2005_T491.pdf; ComponentLink1Description: http://www.kemet.com/Lists/ProductCatalog/Attachments/254/KEM_T2005_T491.pdf; Value: 10uF
footprint CAP1206_TANTALUM_YELLOW
pins: 1, 2

## TF
designator TF?
footprint TF
pins: 1 DATA2, 2 CD/DATA3, 3 CMD, 4 VDD, 5 CLK, 6 VSS, 7 DATA0, 8 DATA1

## TJA1050
designator U?
footprint W25X16
footprint TJA1050
pins: 1 TXD, 2 GND, 3 VCC, 4 RXD, 5 VREF, 6 CANL, 7 CANH, 8 S

## TPS65581
designator U?
Triple Synchronous Regulator 1,5A 2,5A 1,5A; ComponentLink1Description: Datasheet; ComponentLink1URL: https://www.ti.com/lit/ds/symlink/tps65581.pdf?ts=1743069011142&ref_url=https%253A%252F%252Fwww.google.com%252F; Parameter 1: *
footprint TPS655581 (Triple Synchronous Regulator)
pins: 1 VIN (in), 2 VIN (in), 3 VBTS1 (in), 4 SW1 (io), 5 PGND1, 6 VREG5 (out), 7 PG (out), 8 EN1 (in), 9 VFB1 (in), 10 GND, 11 VFB2 (in), 12 VFB3 (in), 13 EN3 (in), 14 VBTS3 (in), 15 SW3 (io), 16 PGND3, 17 EN2 (in), 18 PGND2, 19 SW2 (io), 20 VBTS2 (in), 21 PAD

## transistor_npn
designator Q?, comment Transistor NPN
footprint transistor_TO-92
pins: 1 E (power), 2 C (power), 3 B (power)

## transistor_npn_2n2222
designator Q?, comment Transistor NPN
footprint transistor_TO-92
pins: 1 E (power), 2 B (power), 3 C (power)

## transistor_npn_ujt_2N2646
designator Q?, comment Transistor 2N2646
transistor_npn_ujt_2N2646
footprint transistor_TO-18
pins: 1 Emitter (power), 2 Base 1 (power), 3 Base 2 (power)

## USB-C
designator USB?, comment TYC-302-16
TYPE-C USB CONNECTOR; Part_Num: J0258; Manufacturer_1: XUNPU; Manufacturer_1_PN: TYC-302-16
footprint USB-C
footprint Type-C
footprint USB-C
footprint USB-C (USB Type C Connector)
pins: A1B12 GND, A4B9 VBUS, A5 CC1, A6 DP1, A7 DN1, A8 SBU1, B1A12 GND, B4A9 VBUS, B5 CC2, B6 DP2, B7 DN2, B8 SUB2, S

## USB_690-005-299-043
designator CN?, comment 690-005-299-043
CONN MINI USB RCPT RA TYPE B SMD; Manufacturer: EDAC Inc.; Connector Type: USB - mini B; Number of Contacts: 5; Gender: Receptacle; Specifications: USB 2.0; Current Rating: 1A; Mating Cycles: 1500; Shielding: Unshielded; Material Flammability Rating: UL94 V-0; Supplier 1: Digi-Key; Manufacturer Part Number: 690-005-299-043; RoHS: RoHS Compliant; Category: Connectors, Interconnects; Stock 1: 72905; Pricing 1: 1=0.54, 10=0.51, 25=0.4592, 50=0.408, 100=0.391, 250=0.357, 500=0.34 (USD); Packaging: Cut Tape (CT); Part Status: Active; Mounting Type: Surface Mount, Right Angle; Mounting Feature: Horizontal; Termination: Solder; Features: Board Guide, Solder Retention; Ingress Protection: -; Operating Temperature: -30°C ~ 80°C; Voltage - Rated: -; Contact Finish: Gold; Shell/Shielding Material: Brass; Insulation Color: Black; ComponentLink1URL: http://files.edac.net/690-005-299-043.pdf; ComponentLink1Description: http://files.edac.net/690-005-299-043.pdf; Supplier Part Number 1: 151-1206-1-ND
footprint USB-B-MINI_690-005-299-043
pins: 1 VCC, 2 D-, 3 D+, 4 ID, 5 GND, 6 (power), 7 (power), 8 (power), 9 (power)

## var_resistor
designator VR?, comment Variable Resistor
footprint VARIABLE RESISTOR_3362P
footprint Potentiometer (Precision Trimmer Potentiometer, Top-adjust)
pins: 1, 2, 3

## W25X16
designator U?
W25X16
footprint W25X16
pins: 1 CS (in), 2 DO (in), 3 WP (in), 4 GND (in), 5 DIO (in), 6 CLK (in), 7 HOLD (in), 8 VCC (in)

## XTAL_9C-16.000MAAE-T
designator X?, comment 9C-16.000MAAE-T
CRYSTAL 16.0000MHZ 12PF SMD; Manufacturer: TXC CORPORATION; Frequency Stability: ±30ppm; Operating Mode: Fundamental; Supplier 1: Digi-Key; Manufacturer Part Number: 9C-16.000MAAE-T; RoHS: RoHS Compliant; Category: Crystals, Oscillators, Resonators; Stock 1: 1452; Pricing 1: 1=0.4, 10=0.33, 50=0.297, 100=0.264, 500=0.2508 (USD); Packaging: Cut Tape (CT); Part Status: Active; Type: MHz Crystal; Frequency Tolerance: ±30ppm; Load Capacitance: 12pF; Operating Temperature: -20°C ~ 70°C; Ratings: -; Mounting Type: Surface Mount; Package / Case: HC-49S; Size / Dimension: 0.449" L x 0.189" W (11.40mm x 4.80mm); Height - Seated (Max): 0.161" (4.10mm); ComponentLink1URL: http://www.txccorp.com/download/products/quartz_crystals/2015TXC_9C_32.pdf; ComponentLink1Description: http://www.txccorp.com/download/products/quartz_crystals/2015TXC_9C_32.pdf; Supplier Part Number 1: 887-2423-1-ND
footprint XTAL_CSTCE-V (Murata, Chip Resonator,CSTCE-V Series, Body 3.2x1.3mm)
pins: 1 OSC1, 2 OSC2, 3 GND